# Altium integrated library RESET BUTTON.IntLib: 1 symbol
Pins are listed as number, name and electrical type; pins without a type are passive.

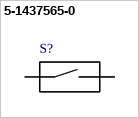
[diagram p0: symbol 5-1437565-0]

## 5-1437565-0
designator S?  (value not drawn)
Switch Tactile OFF _ON_ Round Button Gull Wing 0.05A 12VDC 1.57N SMD T/R; MF: TE Connectivity; EU_RoHS_Compliance: Compliant; SnapEDA_Link: https://www.snapeda.com/parts/5-1437565-0/TE%20Connectivity/view-part/?ref=snap; Package: None; MP: 5-1437565-0; Price: None; TE_purchase_URL: https://www.te.com/usa-en/product-5-1437565-0.html?te_bu=Cor&te_type=disp&te_campaign=seda_glo_cor-seda-global-disp-prtnr-fy19-seda-model-bom-cta_sma-317_1&elqCampaignId=32493; Availability: Unavailable; Value: *
footprint *SW_5-1437565-0
pins: 1 2, 2, 3 1, 4 1